# Altium footprint library Cap_EL.PcbLib: 28 footprints (part 2 of 2)
Each footprint in its own frame and in the unit in brackets; x right, y up, seen from the top. Pads: shape width x height; smd on the part's side, far side on the other; paste and mask are expansions set on the pad; w line width, h text height; cw(c..) or ccw(c..) is an arc to the next point about the centre after c.
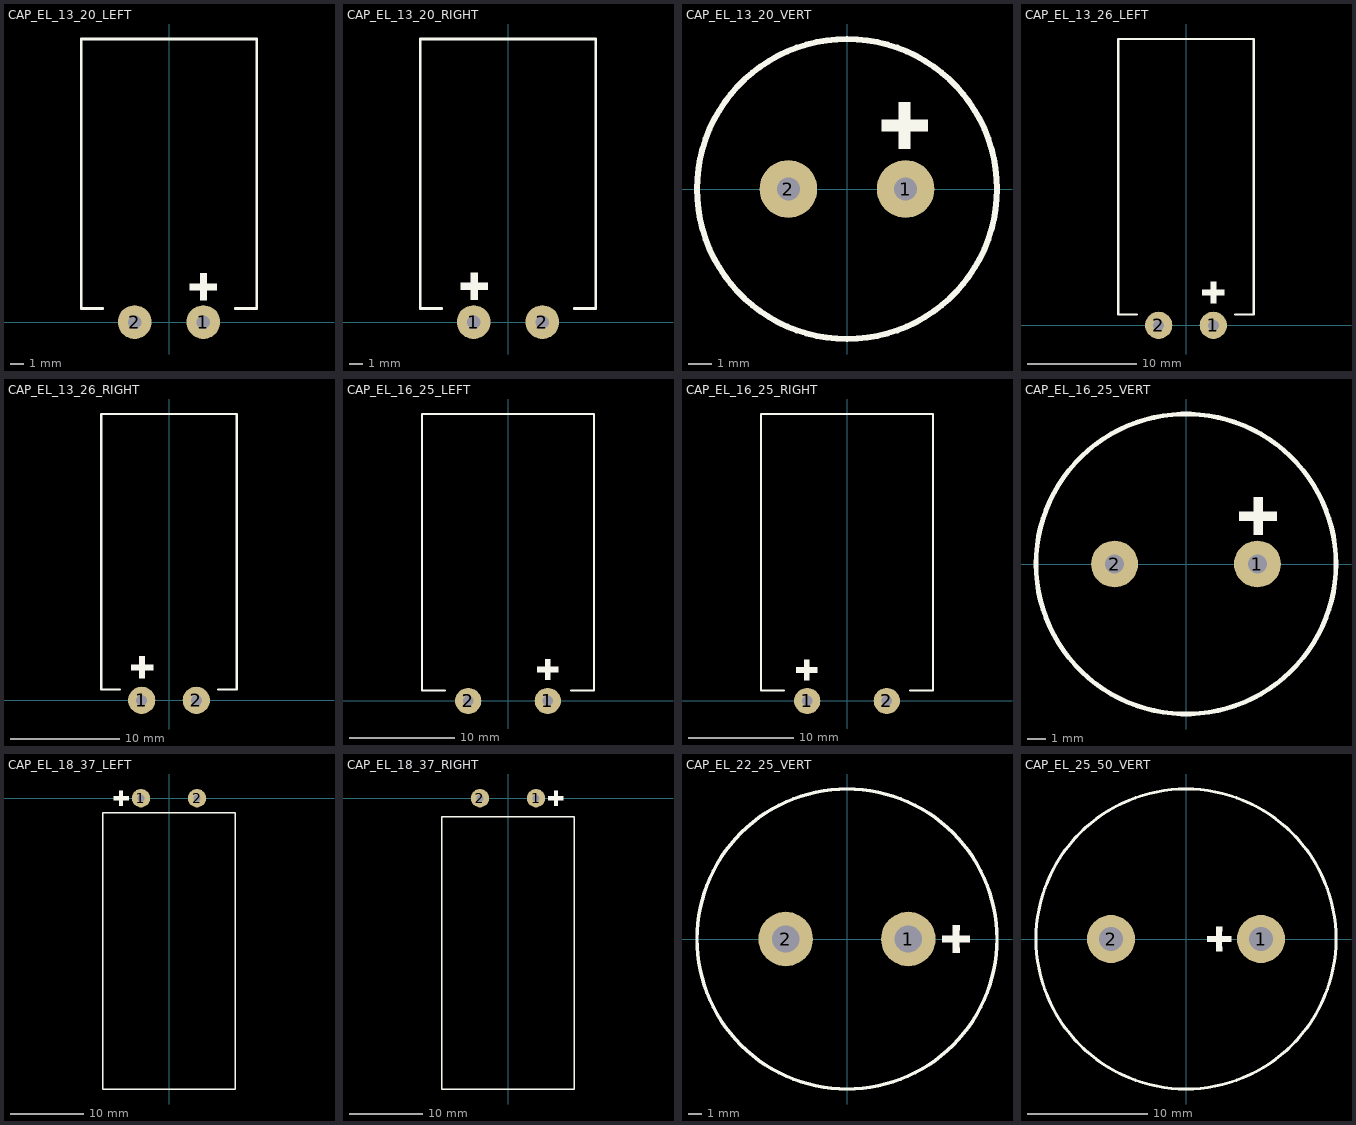
[diagram p1: the footprints below, top view; thin cyan lines are the x and y axes]

## CAP_EL_13_20_LEFT [mm]
pads (2):
  round 2.5 hole 1: 1(2.54,0) 2(-2.54,0)
Top Overlay:
  region: 1.55,2.85 1.55,2.35 2.3,2.35 2.3,1.6 2.8,1.6 2.8,2.35 3.55,2.35 3.55,2.85 2.8,2.85 2.8,3.6 2.3,3.6 2.3,2.85
  lines w0.2: -4.9,1 -6.5,1 -6.5,20.95 6.5,20.95 6.5,1 4.9,1
3D body: height 13.25, standoff -2.25, extent -6.5,-0.33 6.5,20.95

## CAP_EL_13_20_RIGHT [mm]
pads (2):
  round 2.5 hole 1: 1(-2.54,0) 2(2.54,0)
Top Overlay:
  region: -3.5,2.9 -3.5,2.4 -2.75,2.4 -2.75,1.65 -2.25,1.65 -2.25,2.4 -1.5,2.4 -1.5,2.9 -2.25,2.9 -2.25,3.65 -2.75,3.65 -2.75,2.9
  lines w0.2: -4.9,1 -6.5,1 -6.5,20.95 6.5,20.95 6.5,1 4.9,1
3D body: height 13.25, standoff -2.25, extent -6.5,-0.33 6.5,20.95

## CAP_EL_13_20_VERT [mm]
pads (2):
  round 2.5 hole 1: 1(2.54,0) 2(-2.54,0)
Top Overlay:
  circle w0.254: c0,0 r6.5
  region: 1.5,3 1.5,2.5 2.25,2.5 2.25,1.75 2.75,1.75 2.75,2.5 3.5,2.5 3.5,3 2.75,3 2.75,3.75 2.25,3.75 2.25,3
3D body: height 20.72, standoff -2.78, extent -6.492,-6.482 6.5,6.482

## CAP_EL_13_26_LEFT [mm]
pads (2):
  round 2.5 hole 1: 1(2.5,0) 2(-2.5,0)
Top Overlay:
  region: 1.5,3.25 1.5,2.75 2.25,2.75 2.25,2 2.75,2 2.75,2.75 3.5,2.75 3.5,3.25 2.75,3.25 2.75,4 2.25,4 2.25,3.25
  lines w0.2: -4.5,1 -6.2,1 -6.2,26.2 6.2,26.2 6.2,1 4.5,1
3D body: height 12.75, standoff -4, extent -6.25,-0.3 6.25,26.25

## CAP_EL_13_26_RIGHT [mm]
pads (2):
  round 2.5 hole 1: 1(-2.5,0) 2(2.5,0)
Top Overlay:
  region: -3.45,3.275 -3.45,2.775 -2.7,2.775 -2.7,2.025 -2.2,2.025 -2.2,2.775 -1.45,2.775 -1.45,3.275 -2.2,3.275 -2.2,4.025 -2.7,4.025 -2.7,3.275
  lines w0.2: -4.5,1 -6.2,1 -6.2,26.2 6.2,26.2 6.2,1 4.5,1
3D body: height 12.75, standoff -4, extent -6.25,-0.3 6.25,26.25

## CAP_EL_16_25_LEFT [mm]
pads (2):
  round 2.5 hole 1: 1(3.8,0) 2(-3.8,0)
Top Overlay:
  region: 2.8,3.25 2.8,2.75 3.55,2.75 3.55,2 4.05,2 4.05,2.75 4.8,2.75 4.8,3.25 4.05,3.25 4.05,4 3.55,4 3.55,3.25
  lines w0.2: -6,1 -8.2,1 -8.2,27.4 8.2,27.4 8.2,1 6,1
3D body: height 17.25, standoff -3, extent -8.26,-0.4 8.247,27.4

## CAP_EL_16_25_RIGHT [mm]
pads (2):
  round 2.5 hole 1: 1(-3.8,0) 2(3.8,0)
Top Overlay:
  region: -4.85,3.2 -4.85,2.7 -4.1,2.7 -4.1,1.95 -3.6,1.95 -3.6,2.7 -2.85,2.7 -2.85,3.2 -3.6,3.2 -3.6,3.95 -4.1,3.95 -4.1,3.2
  lines w0.2: -6,1 -8.2,1 -8.2,27.4 8.2,27.4 8.2,1 6,1
3D body: height 17.25, standoff -3, extent -8.26,-0.4 8.247,27.4

## CAP_EL_16_25_VERT [mm]
pads (2):
  round 2.5 hole 1: 1(3.81,0) 2(-3.81,0)
Top Overlay:
  circle w0.254: c0,0 r8
  region: 2.85,2.8 2.85,2.3 3.6,2.3 3.6,1.55 4.1,1.55 4.1,2.3 4.85,2.3 4.85,2.8 4.1,2.8 4.1,3.55 3.6,3.55 3.6,2.8
3D body: height 26.11, standoff -4.29, extent -8.25,-8.25 8.25,8.25

## CAP_EL_18_37_LEFT [mm]
pads (2):
  round 2.5 hole 1: 1(-3.81,0) 2(3.81,0)
Top Overlay:
  region: -7.5,0.25 -7.5,-0.25 -6.75,-0.25 -6.75,-1 -6.25,-1 -6.25,-0.25 -5.5,-0.25 -5.5,0.25 -6.25,0.25 -6.25,1 -6.75,1 -6.75,0.25
  lines w0.2: -9,-39.5 9,-39.5 9,-2 -9,-2 -9,-39.5
3D body: height 18.64, standoff -3.5, extent -9.14,-39.52 9.14,0.38

## CAP_EL_18_37_RIGHT [mm]
pads (2):
  round 2.5 hole 1: 1(3.81,0) 2(-3.81,0)
Top Overlay:
  region: 5.5,0.25 5.5,-0.25 6.25,-0.25 6.25,-1 6.75,-1 6.75,-0.25 7.5,-0.25 7.5,0.25 6.75,0.25 6.75,1 6.25,1 6.25,0.25
  lines w0.2: -9,-39.5 -9,-2.5 9,-2.5 9,-39.5 -9,-39.5
3D body: height 18.64, standoff -3.5, extent -9.14,-39.52 9.14,0.38

## CAP_EL_22_25_VERT [mm]
pads (2):
  round 4 hole 2: 1(4.5,0) 2(-4.5,0)
Top Overlay:
  circle w0.254: c0,0 r11
  region: 7,0.25 7,-0.25 7.75,-0.25 7.75,-1 8.25,-1 8.25,-0.25 9,-0.25 9,0.25 8.25,0.25 8.25,1 7.75,1 7.75,0.25
3D body: height 25.01, standoff 0.01, extent -11,-11 11,11

## CAP_EL_25_50_VERT [mm]
pads (2):
  round 4 hole 2: 1(6.25,0) 2(-6.25,0)
Top Overlay:
  circle w0.254: c0,0 r12.5
  region: 1.75,0.25 1.75,-0.25 2.5,-0.25 2.5,-1 3,-1 3,-0.25 3.75,-0.25 3.75,0.25 3,0.25 3,1 2.5,1 2.5,0.25
3D body: height 50.53, standoff -1, extent -12.5,-12.5 12.53,12.5